# Altium schematic symbol library WR-FPC_1.00mm.SchLib: 105 symbols (part 2 of 2)
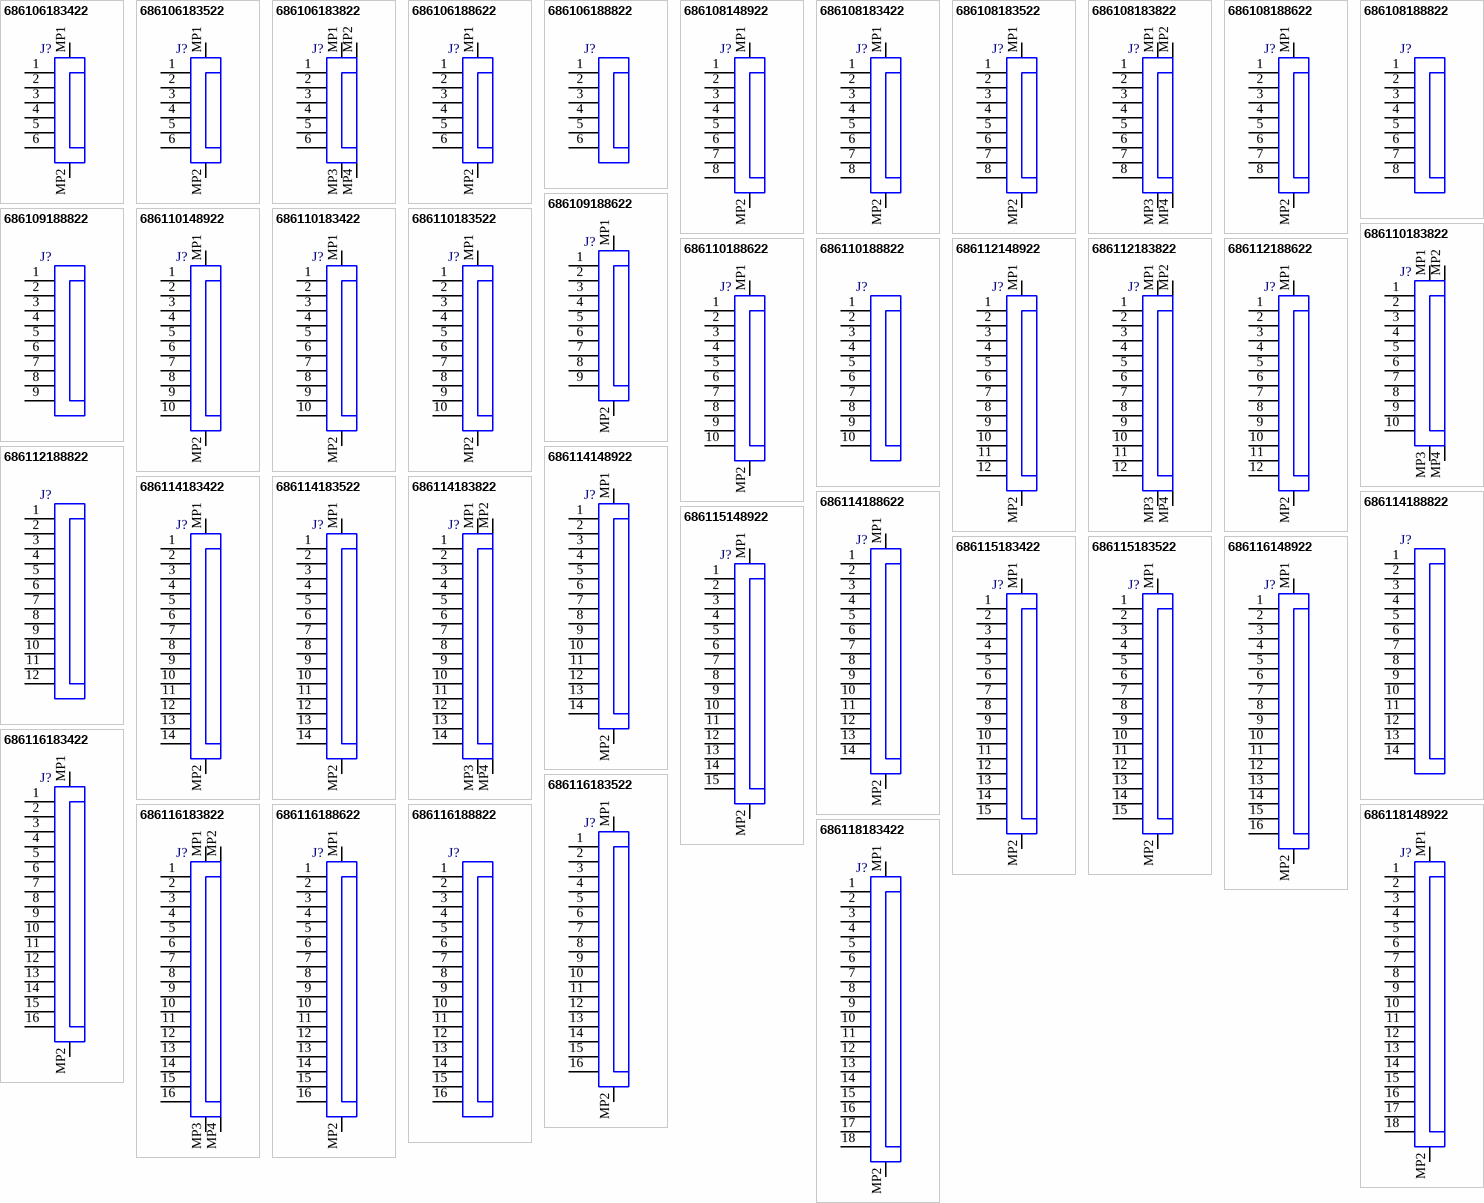
[diagram p3: symbols 686106183422 to 686118183422]

## 686116183422
designator J?
WR-FPC SMT ZIF Horizontal Top Contact Low Profile, pitch 1mm, 16p; Part Number: 686116183422; Contact Resistance: 30mOhm; Pin Number: 16; Working Voltage: 50VAC; Rated Current: 0.8A; ComponentLink1Description: Manufacturer; ComponentLink1URL: http://www.we-online.de; ComponentLink2Description: Datasheet; ComponentLink2URL: https://katalog.we-online.com/em/datasheet/686116183422.pdf; Packaging: Tape and Reel; Pitch: 1mm; Published Date: November 2019; Mounting Technology: SMT; Operating Temperature: -25 to +85degC; Length: 22.2mm; Type: Horizontal; Publisher: Wurth Elektronik
footprint 686116183422
pins: 1, 2, 3, 4, 5, 6, 7, 8, 9, 10, 11, 12, 13, 14, 15, 16, MP1, MP2

## 686116183522
designator J?
WR-FPC SMT ZIF Horizontal Bottom Contact Low Profile, pitch 1mm, 16p; Part Number: 686116183522; Contact Resistance: 30mOhm; Pin Number: 16; Working Voltage: 50VAC; Rated Current: 0.8A; ComponentLink1Description: Manufacturer; ComponentLink1URL: http://www.we-online.de; ComponentLink2Description: Datasheet; ComponentLink2URL: https://katalog.we-online.com/em/datasheet/686116183522.pdf; Packaging: Tape and Reel; Pitch: 1mm; Published Date: November 2019; Mounting Technology: SMT; Operating Temperature: -25 to +85degC; Length: 22.2mm; Type: Horizontal; Publisher: Wurth Elektronik
footprint 686116183522
pins: 1, 2, 3, 4, 5, 6, 7, 8, 9, 10, 11, 12, 13, 14, 15, 16, MP1, MP2

## 686116183822
designator J?
WR-FPC SMT ZIF Vertical Type A, pitch 1mm, 16p; Part Number: 686116183822; Contact Resistance: 30mOhm; Pin Number: 16; Working Voltage: 125VAC; Rated Current: 1A; ComponentLink1Description: Manufacturer; ComponentLink1URL: http://www.we-online.de; ComponentLink2Description: Datasheet; ComponentLink2URL: https://katalog.we-online.com/em/datasheet/686116183822.pdf; Packaging: Tape and Reel; Pitch: 1mm; Published Date: November 2019; Mounting Technology: SMT; Operating Temperature: -25 to +85degC; Length: 22.8mm; Type: Vertical; Publisher: Wurth Elektronik
footprint 686116183822
pins: 1, 2, 3, 4, 5, 6, 7, 8, 9, 10, 11, 12, 13, 14, 15, 16, MP1, MP2, MP3, MP4

## 686116188622
designator J?
WR-FPC SMT LIF Horizontal Top Contact, pitch 1mm, 16p; Part Number: 686116188622; Contact Resistance: 30mOhm; Pin Number: 16; Working Voltage: 125VAC; Rated Current: 1A; ComponentLink1Description: Manufacturer; ComponentLink1URL: http://www.we-online.de; ComponentLink2Description: Datasheet; ComponentLink2URL: https://katalog.we-online.com/em/datasheet/686116188622.pdf; Packaging: Tape and Reel; Pitch: 1mm; Published Date: November 2019; Mounting Technology: SMT; Operating Temperature: -25 to +85degC; Length: 19.8mm; Type: Horizontal; Publisher: Wurth Elektronik
footprint 686116188622
pins: 1, 2, 3, 4, 5, 6, 7, 8, 9, 10, 11, 12, 13, 14, 15, 16, MP1, MP2

## 686116188822
designator J?
WR-FPC SMT LIF Vertical Type A, pitch 1mm, 16p; Part Number: 686116188822; Contact Resistance: 30mOhm; Pin Number: 16; Working Voltage: 125VAC; Rated Current: 1A; ComponentLink1Description: Manufacturer; ComponentLink1URL: http://www.we-online.de; ComponentLink2Description: Datasheet; ComponentLink2URL: https://katalog.we-online.com/em/datasheet/686116188822.pdf; Packaging: Tape and Reel; Pitch: 1mm; Published Date: November 2019; Mounting Technology: SMT; Operating Temperature: -25 to +85degC; Length: 19mm; Type: Vertical; Publisher: Wurth Elektronik
footprint 686116188822
pins: 1, 2, 3, 4, 5, 6, 7, 8, 9, 10, 11, 12, 13, 14, 15, 16

## 686118148922
designator J?
WR-FPC SMT ZIF Horizontal Bottom Contact Hinge Type, pitch 1mm, 18p; Part Number: 686118148922; Contact Resistance: 50mOhm; Pin Number: 18; Working Voltage: 100VAC; Rated Current: 1A; ComponentLink1Description: Manufacturer; ComponentLink1URL: http://www.we-online.de; ComponentLink2Description: Datasheet; ComponentLink2URL: https://katalog.we-online.com/em/datasheet/686118148922.pdf; Packaging: Tape and Reel; Pitch: 1mm; Published Date: November 2019; Mounting Technology: SMT; Operating Temperature: -25 to +85degC; Length: 22.6mm; Type: Horizontal; Publisher: Wurth Elektronik
footprint 686118148922
pins: 1, 2, 3, 4, 5, 6, 7, 8, 9, 10, 11, 12, 13, 14, 15, 16, 17, 18, MP1, MP2

## 686118183422
designator J?
WR-FPC SMT ZIF Horizontal Top Contact Low Profile, pitch 1mm, 18p; Part Number: 686118183422; Contact Resistance: 30mOhm; Pin Number: 18; Working Voltage: 50VAC; Rated Current: 0.8A; ComponentLink1Description: Manufacturer; ComponentLink1URL: http://www.we-online.de; ComponentLink2Description: Datasheet; ComponentLink2URL: https://katalog.we-online.com/em/datasheet/686118183422.pdf; Packaging: Tape and Reel; Pitch: 1mm; Published Date: November 2019; Mounting Technology: SMT; Operating Temperature: -25 to +85degC; Length: 24.2mm; Type: Horizontal; Publisher: Wurth Elektronik
footprint 686118183422
pins: 1, 2, 3, 4, 5, 6, 7, 8, 9, 10, 11, 12, 13, 14, 15, 16, 17, 18, MP1, MP2

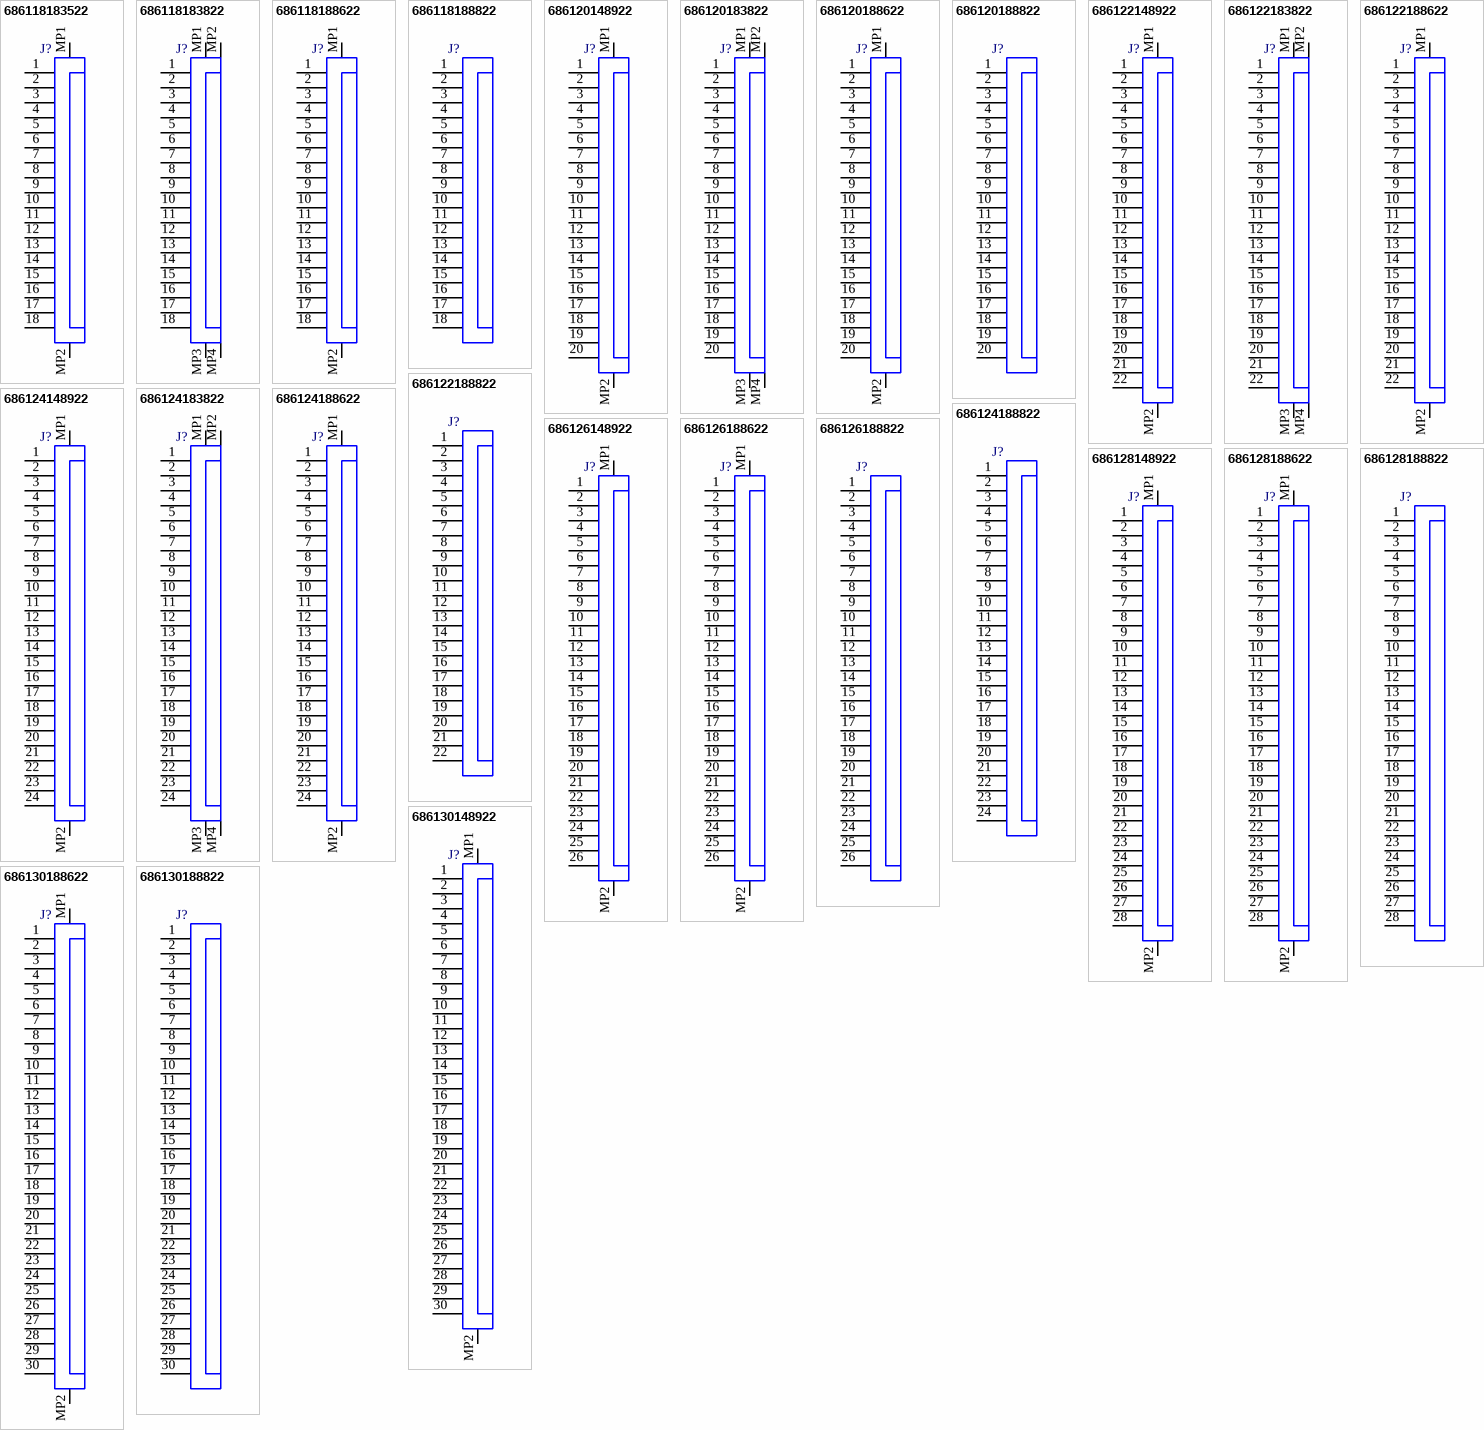
[diagram p2: symbols 686118183522 to 686130188822]

## 686118183522
designator J?
WR-FPC SMT ZIF Horizontal Bottom Contact Low Profile, pitch 1mm, 18p; Part Number: 686118183522; Contact Resistance: 30mOhm; Pin Number: 18; Working Voltage: 50VAC; Rated Current: 0.8A; ComponentLink1Description: Manufacturer; ComponentLink1URL: http://www.we-online.de; ComponentLink2Description: Datasheet; ComponentLink2URL: https://katalog.we-online.com/em/datasheet/686118183522.pdf; Packaging: Tape and Reel; Pitch: 1mm; Published Date: November 2019; Mounting Technology: SMT; Operating Temperature: -25 to +85degC; Length: 24.2mm; Type: Horizontal; Publisher: Wurth Elektronik
footprint 686118183522
pins: 1, 2, 3, 4, 5, 6, 7, 8, 9, 10, 11, 12, 13, 14, 15, 16, 17, 18, MP1, MP2

## 686118183822
designator J?
WR-FPC SMT ZIF Vertical Type A, pitch 1mm, 18p; Part Number: 686118183822; Contact Resistance: 30mOhm; Pin Number: 18; Working Voltage: 125VAC; Rated Current: 1A; ComponentLink1Description: Manufacturer; ComponentLink1URL: http://www.we-online.de; ComponentLink2Description: Datasheet; ComponentLink2URL: https://katalog.we-online.com/em/datasheet/686118183822.pdf; Packaging: Tape and Reel; Pitch: 1mm; Published Date: November 2019; Mounting Technology: SMT; Operating Temperature: -25 to +85degC; Length: 24.8mm; Type: Vertical; Publisher: Wurth Elektronik
footprint 686118183822
pins: 1, 2, 3, 4, 5, 6, 7, 8, 9, 10, 11, 12, 13, 14, 15, 16, 17, 18, MP1, MP2, MP3, MP4

## 686118188622
designator J?
WR-FPC SMT LIF Horizontal Top Contact, pitch 1mm, 18p; Part Number: 686118188622; Contact Resistance: 30mOhm; Pin Number: 18; Working Voltage: 125VAC; Rated Current: 1A; ComponentLink1Description: Manufacturer; ComponentLink1URL: http://www.we-online.de; ComponentLink2Description: Datasheet; ComponentLink2URL: https://katalog.we-online.com/em/datasheet/686118188622.pdf; Packaging: Tape and Reel; Pitch: 1mm; Published Date: November 2019; Mounting Technology: SMT; Operating Temperature: -25 to +85degC; Length: 21.8mm; Type: Horizontal; Publisher: Wurth Elektronik
footprint 686118188622
pins: 1, 2, 3, 4, 5, 6, 7, 8, 9, 10, 11, 12, 13, 14, 15, 16, 17, 18, MP1, MP2

## 686118188822
designator J?
WR-FPC SMT LIF Vertical Type A, pitch 1mm, 18p; Part Number: 686118188822; Contact Resistance: 30mOhm; Pin Number: 18; Working Voltage: 125VAC; Rated Current: 1A; ComponentLink1Description: Manufacturer; ComponentLink1URL: http://www.we-online.de; ComponentLink2Description: Datasheet; ComponentLink2URL: https://katalog.we-online.com/em/datasheet/686118188822.pdf; Packaging: Tape and Reel; Pitch: 1mm; Published Date: November 2019; Mounting Technology: SMT; Operating Temperature: -25 to +85degC; Length: 21mm; Type: Vertical; Publisher: Wurth Elektronik
footprint 686118188822
pins: 1, 2, 3, 4, 5, 6, 7, 8, 9, 10, 11, 12, 13, 14, 15, 16, 17, 18

## 686120148922
designator J?
WR-FPC SMT ZIF Horizontal Bottom Contact Hinge Type, pitch 1mm, 20p; Part Number: 686120148922; Contact Resistance: 50mOhm; Pin Number: 20; Working Voltage: 100VAC; Rated Current: 1A; ComponentLink1Description: Manufacturer; ComponentLink1URL: http://www.we-online.de; ComponentLink2Description: Datasheet; ComponentLink2URL: https://katalog.we-online.com/em/datasheet/686120148922.pdf; Packaging: Tape and Reel; Pitch: 1mm; Published Date: November 2019; Mounting Technology: SMT; Operating Temperature: -25 to +85degC; Length: 24.6mm; Type: Horizontal; Publisher: Wurth Elektronik
footprint 686120148922
pins: 1, 2, 3, 4, 5, 6, 7, 8, 9, 10, 11, 12, 13, 14, 15, 16, 17, 18, 19, 20, MP1, MP2

## 686120183822
designator J?
WR-FPC SMT ZIF Vertical Type A, pitch 1mm, 20p; Part Number: 686120183822; Contact Resistance: 30mOhm; Pin Number: 20; Working Voltage: 125VAC; Rated Current: 1A; ComponentLink1Description: Manufacturer; ComponentLink1URL: http://www.we-online.de; ComponentLink2Description: Datasheet; ComponentLink2URL: https://katalog.we-online.com/em/datasheet/686120183822.pdf; Packaging: Tape and Reel; Pitch: 1mm; Published Date: November 2019; Mounting Technology: SMT; Operating Temperature: -25 to +85degC; Length: 26.8mm; Type: Vertical; Publisher: Wurth Elektronik
footprint 686120183822
pins: 1, 2, 3, 4, 5, 6, 7, 8, 9, 10, 11, 12, 13, 14, 15, 16, 17, 18, 19, 20, MP1, MP2, MP3, MP4

## 686120188622
designator J?
WR-FPC SMT LIF Horizontal Top Contact, pitch 1mm, 20p; Part Number: 686120188622; Contact Resistance: 30mOhm; Pin Number: 20; Working Voltage: 125VAC; Rated Current: 1A; ComponentLink1Description: Manufacturer; ComponentLink1URL: http://www.we-online.de; ComponentLink2Description: Datasheet; ComponentLink2URL: https://katalog.we-online.com/em/datasheet/686120188622.pdf; Packaging: Tape and Reel; Pitch: 1mm; Published Date: November 2019; Mounting Technology: SMT; Operating Temperature: -25 to +85degC; Length: 23.8mm; Type: Horizontal; Publisher: Wurth Elektronik
footprint 686120188622
pins: 1, 2, 3, 4, 5, 6, 7, 8, 9, 10, 11, 12, 13, 14, 15, 16, 17, 18, 19, 20, MP1, MP2

## 686120188822
designator J?
WR-FPC SMT LIF Vertical Type A, pitch 1mm, 20p; Part Number: 686120188822; Contact Resistance: 30mOhm; Pin Number: 20; Working Voltage: 125VAC; Rated Current: 1A; ComponentLink1Description: Manufacturer; ComponentLink1URL: http://www.we-online.de; ComponentLink2Description: Datasheet; ComponentLink2URL: https://katalog.we-online.com/em/datasheet/686120188822.pdf; Packaging: Tape and Reel; Pitch: 1mm; Published Date: November 2019; Mounting Technology: SMT; Operating Temperature: -25 to +85degC; Length: 23mm; Type: Vertical; Publisher: Wurth Elektronik
footprint 686120188822
pins: 1, 2, 3, 4, 5, 6, 7, 8, 9, 10, 11, 12, 13, 14, 15, 16, 17, 18, 19, 20

## 686122148922
designator J?
WR-FPC SMT ZIF Horizontal Bottom Contact Hinge Type, pitch 1mm, 22p; Part Number: 686122148922; Contact Resistance: 50mOhm; Pin Number: 22; Working Voltage: 100VAC; Rated Current: 1A; ComponentLink1Description: Manufacturer; ComponentLink1URL: http://www.we-online.de; ComponentLink2Description: Datasheet; ComponentLink2URL: https://katalog.we-online.com/em/datasheet/686122148922.pdf; Packaging: Tape and Reel; Pitch: 1mm; Published Date: November 2019; Mounting Technology: SMT; Operating Temperature: -25 to +85degC; Length: 26.6mm; Type: Horizontal; Publisher: Wurth Elektronik
footprint 686122148922
pins: 1, 2, 3, 4, 5, 6, 7, 8, 9, 10, 11, 12, 13, 14, 15, 16, 17, 18, 19, 20, 21, 22, MP1, MP2

## 686122183822
designator J?
WR-FPC SMT ZIF Vertical Type A, pitch 1mm, 22p; Part Number: 686122183822; Contact Resistance: 30mOhm; Pin Number: 22; Working Voltage: 125VAC; Rated Current: 1A; ComponentLink1Description: Manufacturer; ComponentLink1URL: http://www.we-online.de; ComponentLink2Description: Datasheet; ComponentLink2URL: https://katalog.we-online.com/em/datasheet/686122183822.pdf; Packaging: Tape and Reel; Pitch: 1mm; Published Date: November 2019; Mounting Technology: SMT; Operating Temperature: -25 to +85degC; Length: 28.8mm; Type: Vertical; Publisher: Wurth Elektronik
footprint 686122183822
pins: 1, 2, 3, 4, 5, 6, 7, 8, 9, 10, 11, 12, 13, 14, 15, 16, 17, 18, 19, 20, 21, 22, MP1, MP2, MP3, MP4

## 686122188622
designator J?
WR-FPC SMT LIF Horizontal Top Contact, pitch 1mm, 22p; Part Number: 686122188622; Contact Resistance: 30mOhm; Pin Number: 22; Working Voltage: 125VAC; Rated Current: 1A; ComponentLink1Description: Manufacturer; ComponentLink1URL: http://www.we-online.de; ComponentLink2Description: Datasheet; ComponentLink2URL: https://katalog.we-online.com/em/datasheet/686122188622.pdf; Packaging: Tape and Reel; Pitch: 1mm; Published Date: November 2019; Mounting Technology: SMT; Operating Temperature: -25 to +85degC; Length: 25.8mm; Type: Horizontal; Publisher: Wurth Elektronik
footprint 686122188622
pins: 1, 2, 3, 4, 5, 6, 7, 8, 9, 10, 11, 12, 13, 14, 15, 16, 17, 18, 19, 20, 21, 22, MP1, MP2

## 686122188822
designator J?
WR-FPC SMT LIF Vertical Type A, pitch 1mm, 22p; Part Number: 686122188822; Contact Resistance: 30mOhm; Pin Number: 22; Working Voltage: 125VAC; Rated Current: 1A; ComponentLink1Description: Manufacturer; ComponentLink1URL: http://www.we-online.de; ComponentLink2Description: Datasheet; ComponentLink2URL: https://katalog.we-online.com/em/datasheet/686122188822.pdf; Packaging: Tape and Reel; Pitch: 1mm; Published Date: November 2019; Mounting Technology: SMT; Operating Temperature: -25 to +85degC; Length: 25mm; Type: Vertical; Publisher: Wurth Elektronik
footprint 686122188822
pins: 1, 2, 3, 4, 5, 6, 7, 8, 9, 10, 11, 12, 13, 14, 15, 16, 17, 18, 19, 20, 21, 22

## 686124148922
designator J?
WR-FPC SMT ZIF Horizontal Bottom Contact Hinge Type, pitch 1mm, 24p; Part Number: 686124148922; Contact Resistance: 50mOhm; Pin Number: 24; Working Voltage: 100VAC; Rated Current: 1A; ComponentLink1Description: Manufacturer; ComponentLink1URL: http://www.we-online.de; ComponentLink2Description: Datasheet; ComponentLink2URL: https://katalog.we-online.com/em/datasheet/686124148922.pdf; Packaging: Tape and Reel; Pitch: 1mm; Published Date: November 2019; Mounting Technology: SMT; Operating Temperature: -25 to +85degC; Length: 28.6mm; Type: Horizontal; Publisher: Wurth Elektronik
footprint 686124148922
pins: 1, 2, 3, 4, 5, 6, 7, 8, 9, 10, 11, 12, 13, 14, 15, 16, 17, 18, 19, 20, 21, 22, 23, 24, MP1, MP2

## 686124183822
designator J?
WR-FPC SMT ZIF Vertical Type A, pitch 1mm, 24p; Part Number: 686124183822; Contact Resistance: 30mOhm; Pin Number: 24; Working Voltage: 125VAC; Rated Current: 1A; ComponentLink1Description: Manufacturer; ComponentLink1URL: http://www.we-online.de; ComponentLink2Description: Datasheet; ComponentLink2URL: https://katalog.we-online.com/em/datasheet/686124183822.pdf; Packaging: Tape and Reel; Pitch: 1mm; Published Date: November 2019; Mounting Technology: SMT; Operating Temperature: -25 to +85degC; Length: 30.8mm; Type: Vertical; Publisher: Wurth Elektronik
footprint 686124183822
pins: 1, 2, 3, 4, 5, 6, 7, 8, 9, 10, 11, 12, 13, 14, 15, 16, 17, 18, 19, 20, 21, 22, 23, 24, MP1, MP2, MP3, MP4

## 686124188622
designator J?
WR-FPC SMT LIF Horizontal Top Contact, pitch 1mm, 24p; Part Number: 686124188622; Contact Resistance: 30mOhm; Pin Number: 24; Working Voltage: 125VAC; Rated Current: 1A; ComponentLink1Description: Manufacturer; ComponentLink1URL: http://www.we-online.de; ComponentLink2Description: Datasheet; ComponentLink2URL: https://katalog.we-online.com/em/datasheet/686124188622.pdf; Packaging: Tape and Reel; Pitch: 1mm; Published Date: November 2019; Mounting Technology: SMT; Operating Temperature: -25 to +85degC; Length: 27.8mm; Type: Horizontal; Publisher: Wurth Elektronik
footprint 686124188622
pins: 1, 2, 3, 4, 5, 6, 7, 8, 9, 10, 11, 12, 13, 14, 15, 16, 17, 18, 19, 20, 21, 22, 23, 24, MP1, MP2

## 686124188822
designator J?
WR-FPC SMT LIF Vertical Type A, pitch 1mm, 24p; Part Number: 686124188822; Contact Resistance: 30mOhm; Pin Number: 24; Working Voltage: 125VAC; Rated Current: 1A; ComponentLink1Description: Manufacturer; ComponentLink1URL: http://www.we-online.de; ComponentLink2Description: Datasheet; ComponentLink2URL: https://katalog.we-online.com/em/datasheet/686124188822.pdf; Packaging: Tape and Reel; Pitch: 1mm; Published Date: November 2019; Mounting Technology: SMT; Operating Temperature: -25 to +85degC; Length: 27mm; Type: Vertical; Publisher: Wurth Elektronik
footprint 686124188822
pins: 1, 2, 3, 4, 5, 6, 7, 8, 9, 10, 11, 12, 13, 14, 15, 16, 17, 18, 19, 20, 21, 22, 23, 24

## 686126148922
designator J?
WR-FPC SMT ZIF Horizontal Bottom Contact Hinge Type, pitch 1mm, 26p; Part Number: 686126148922; Contact Resistance: 50mOhm; Pin Number: 26; Working Voltage: 100VAC; Rated Current: 1A; ComponentLink1Description: Manufacturer; ComponentLink1URL: http://www.we-online.de; ComponentLink2Description: Datasheet; ComponentLink2URL: https://katalog.we-online.com/em/datasheet/686126148922.pdf; Packaging: Tape and Reel; Pitch: 1mm; Published Date: November 2019; Mounting Technology: SMT; Operating Temperature: -25 to +85degC; Length: 30.6mm; Type: Horizontal; Publisher: Wurth Elektronik
footprint 686126148922
pins: 1, 2, 3, 4, 5, 6, 7, 8, 9, 10, 11, 12, 13, 14, 15, 16, 17, 18, 19, 20, 21, 22, 23, 24, 25, 26, MP1, MP2

## 686126188622
designator J?
WR-FPC SMT LIF Horizontal Top Contact, pitch 1mm, 26p; Part Number: 686126188622; Contact Resistance: 30mOhm; Pin Number: 26; Working Voltage: 125VAC; Rated Current: 1A; ComponentLink1Description: Manufacturer; ComponentLink1URL: http://www.we-online.de; ComponentLink2Description: Datasheet; ComponentLink2URL: https://katalog.we-online.com/em/datasheet/686126188622.pdf; Packaging: Tape and Reel; Pitch: 1mm; Published Date: November 2019; Mounting Technology: SMT; Operating Temperature: -25 to +85degC; Length: 29.8mm; Type: Horizontal; Publisher: Wurth Elektronik
footprint 686126188622
pins: 1, 2, 3, 4, 5, 6, 7, 8, 9, 10, 11, 12, 13, 14, 15, 16, 17, 18, 19, 20, 21, 22, 23, 24, 25, 26, MP1, MP2

## 686126188822
designator J?
WR-FPC SMT LIF Vertical Type A, pitch 1mm, 26p; Part Number: 686126188822; Contact Resistance: 30mOhm; Pin Number: 26; Working Voltage: 125VAC; Rated Current: 1A; ComponentLink1Description: Manufacturer; ComponentLink1URL: http://www.we-online.de; ComponentLink2Description: Datasheet; ComponentLink2URL: https://katalog.we-online.com/em/datasheet/686126188822.pdf; Packaging: Tape and Reel; Pitch: 1mm; Published Date: November 2019; Mounting Technology: SMT; Operating Temperature: -25 to +85degC; Length: 29mm; Type: Vertical; Publisher: Wurth Elektronik
footprint 686126188822
pins: 1, 2, 3, 4, 5, 6, 7, 8, 9, 10, 11, 12, 13, 14, 15, 16, 17, 18, 19, 20, 21, 22, 23, 24, 25, 26

## 686128148922
designator J?
WR-FPC SMT ZIF Horizontal Bottom Contact Hinge Type, pitch 1mm, 28p; Part Number: 686128148922; Contact Resistance: 50mOhm; Pin Number: 28; Working Voltage: 100VAC; Rated Current: 1A; ComponentLink1Description: Manufacturer; ComponentLink1URL: http://www.we-online.de; ComponentLink2Description: Datasheet; ComponentLink2URL: https://katalog.we-online.com/em/datasheet/686128148922.pdf; Packaging: Tape and Reel; Pitch: 1mm; Published Date: November 2019; Mounting Technology: SMT; Operating Temperature: -25 to +85degC; Length: 32.6mm; Type: Horizontal; Publisher: Wurth Elektronik
footprint 686128148922
pins: 1, 2, 3, 4, 5, 6, 7, 8, 9, 10, 11, 12, 13, 14, 15, 16, 17, 18, 19, 20, 21, 22, 23, 24, 25, 26, 27, 28, MP1, MP2

## 686128188622
designator J?
WR-FPC SMT LIF Horizontal Top Contact, pitch 1mm, 28p; Part Number: 686128188622; Contact Resistance: 30mOhm; Pin Number: 28; Working Voltage: 125VAC; Rated Current: 1A; ComponentLink1Description: Manufacturer; ComponentLink1URL: http://www.we-online.de; ComponentLink2Description: Datasheet; ComponentLink2URL: https://katalog.we-online.com/em/datasheet/686128188622.pdf; Packaging: Tape and Reel; Pitch: 1mm; Published Date: November 2019; Mounting Technology: SMT; Operating Temperature: -25 to +85degC; Length: 31.8mm; Type: Horizontal; Publisher: Wurth Elektronik
footprint 686128188622
pins: 1, 2, 3, 4, 5, 6, 7, 8, 9, 10, 11, 12, 13, 14, 15, 16, 17, 18, 19, 20, 21, 22, 23, 24, 25, 26, 27, 28, MP1, MP2

## 686128188822
designator J?
WR-FPC SMT LIF Vertical Type A, pitch 1mm, 28p; Part Number: 686128188822; Contact Resistance: 30mOhm; Pin Number: 28; Working Voltage: 125VAC; Rated Current: 1A; ComponentLink1Description: Manufacturer; ComponentLink1URL: http://www.we-online.de; ComponentLink2Description: Datasheet; ComponentLink2URL: https://katalog.we-online.com/em/datasheet/686128188822.pdf; Packaging: Tape and Reel; Pitch: 1mm; Published Date: November 2019; Mounting Technology: SMT; Operating Temperature: -25 to +85degC; Length: 31mm; Type: Vertical; Publisher: Wurth Elektronik
footprint 686128188822
pins: 1, 2, 3, 4, 5, 6, 7, 8, 9, 10, 11, 12, 13, 14, 15, 16, 17, 18, 19, 20, 21, 22, 23, 24, 25, 26, 27, 28

## 686130148922
designator J?
WR-FPC SMT ZIF Horizontal Bottom Contact Hinge Type, pitch 1mm, 30p; Part Number: 686130148922; Contact Resistance: 50mOhm; Pin Number: 30; Working Voltage: 100VAC; Rated Current: 1A; ComponentLink1Description: Manufacturer; ComponentLink1URL: http://www.we-online.de; ComponentLink2Description: Datasheet; ComponentLink2URL: https://katalog.we-online.com/em/datasheet/686130148922.pdf; Packaging: Tape and Reel; Pitch: 1mm; Published Date: November 2019; Mounting Technology: SMT; Operating Temperature: -25 to +85degC; Length: 34.6mm; Type: Horizontal; Publisher: Wurth Elektronik
footprint 686130148922
pins: 1, 2, 3, 4, 5, 6, 7, 8, 9, 10, 11, 12, 13, 14, 15, 16, 17, 18, 19, 20, 21, 22, 23, 24, 25, 26, 27, 28, 29, 30, MP1, MP2

## 686130188622
designator J?
WR-FPC SMT LIF Horizontal Top Contact, pitch 1mm, 30p; Part Number: 686130188622; Contact Resistance: 30mOhm; Pin Number: 30; Working Voltage: 125VAC; Rated Current: 1A; ComponentLink1Description: Manufacturer; ComponentLink1URL: http://www.we-online.de; ComponentLink2Description: Datasheet; ComponentLink2URL: https://katalog.we-online.com/em/datasheet/686130188622.pdf; Packaging: Tape and Reel; Pitch: 1mm; Published Date: November 2019; Mounting Technology: SMT; Operating Temperature: -25 to +85degC; Length: 33.8mm; Type: Horizontal; Publisher: Wurth Elektronik
footprint 686130188622
pins: 1, 2, 3, 4, 5, 6, 7, 8, 9, 10, 11, 12, 13, 14, 15, 16, 17, 18, 19, 20, 21, 22, 23, 24, 25, 26, 27, 28, 29, 30, MP1, MP2

## 686130188822
designator J?
WR-FPC SMT LIF Vertical Type A, pitch 1mm, 30p; Part Number: 686130188822; Contact Resistance: 30mOhm; Pin Number: 30; Working Voltage: 125VAC; Rated Current: 1A; ComponentLink1Description: Manufacturer; ComponentLink1URL: http://www.we-online.de; ComponentLink2Description: Datasheet; ComponentLink2URL: https://katalog.we-online.com/em/datasheet/686130188822.pdf; Packaging: Tape and Reel; Pitch: 1mm; Published Date: November 2019; Mounting Technology: SMT; Operating Temperature: -25 to +85degC; Length: 33mm; Type: Vertical; Publisher: Wurth Elektronik
footprint 686130188822
pins: 1, 2, 3, 4, 5, 6, 7, 8, 9, 10, 11, 12, 13, 14, 15, 16, 17, 18, 19, 20, 21, 22, 23, 24, 25, 26, 27, 28, 29, 30